# EAGLE library part AD53X5 (library mike)
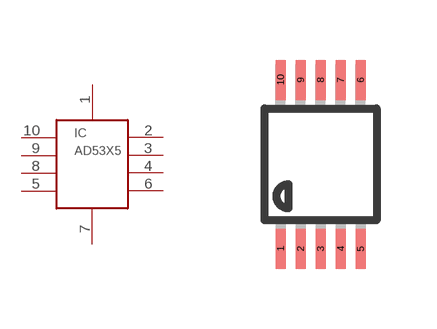
[diagram p11: symbol with the pads of MSOP10; footprint MSOP10]

Designator prefix IC

## AD53X5  [MSOP10]
1  VDD  pwr
2  VOUTA  out
3  VOUTB  out
4  VOUTC  out
5  REFIN  pas
6  VOUTD  out
7  GND  pwr
8  SDA  in
9  SCL  in
10  A0  in

## Footprint MSOP10 (pad centres in mm)
10-Lead Mini Small Outline Package [MSOP] (RM-10) Source: http://www.analog.com/UploadedFiles/Data_Sheets/35641221898805SSM2167_b.pdf COMPLIANT TO JEDEC STANDARDS MO-187BA
smd 0.25 x 1: 1 -1,-2.113; 2 -0.5,-2.113; 3 0,-2.113; 4 0.5,-2.113; 5 1,-2.113; 6 1,2.113; 7 0.5,2.113; 8 0,2.113; 9 -0.5,2.113; 10 -1,2.113